# Altium footprint library LTC3525ESC6-3.3TRMPBF.PcbLib: 1 footprints
Each footprint in its own frame and in the unit in brackets; x right, y up, seen from the top. Pads: shape width x height; smd on the part's side, far side on the other; paste and mask are expansions set on the pad; w line width, h text height; cw(c..) or ccw(c..) is an arc to the next point about the centre after c.
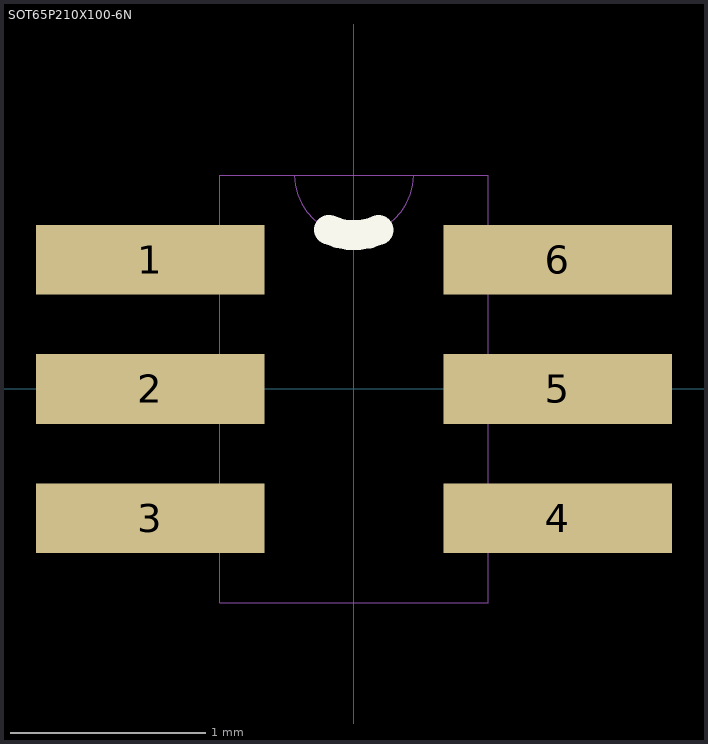
[diagram p0: the footprint, top view; thin cyan lines are the x and y axes]

## SOT65P210X100-6N [mil]
pads (6):
  rect 46x14 smd: 1(-41,26) 2(-41,0) 3(-41,-26) 4(41,-26) 5(41,0) 6(41,26)
Top Overlay:
  lines w6: -5.1,32.04 ccw(c0,42.97) 4.9,31.96
Mechanical 1:
  lines w0: -27,-31 -47,-31 -47,-20 -27,-20 ; -27,-31 -27,-43 27,-43 27,-31 ; -27,-31 -27,-20 ; -27,-20 -27,-6 ; -27,-6 -47,-6 -47,6 -27,6 ; -27,-6 -27,6 ; -27,6 -27,20 ; -27,20 -47,20 -47,31 -27,31 ; -27,20 -27,31 ; -27,31 -27,43 -12,43 ; -12,43 ccw(c0,43) 12,43 ; -12,43 12,43 ; 12,43 27,43 27,31 ; 27,-31 47,-31 47,-20 27,-20 ; 27,-31 27,-20 ; 27,-20 27,-6 ; 27,-6 47,-6 47,6 27,6 ; 27,-6 27,6 ; 27,6 27,20 ; 27,20 47,20 47,31 27,31 ; 27,20 27,31